# Altium schematic symbol library Simpton_Schlib.SchLib: 7 symbols
Pins are listed as number, name and electrical type; pins without a type are passive.

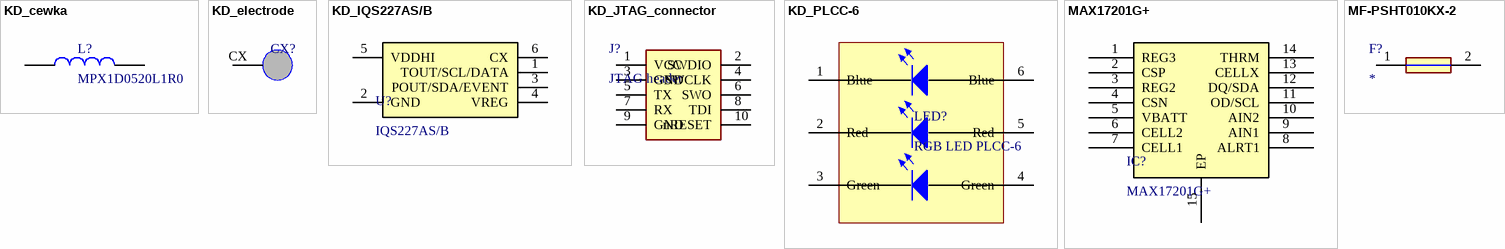
[diagram p0: symbols KD_cewka to MF-PSHT010KX-2]

## KD_cewka
designator L?, comment MPX1D0520L1R0
footprint INDPM5350X200N
pins: 25, 26

## KD_electrode
designator CX?
footprint KD_electrode
pins: CX 18

## KD_IQS227AS/B
designator U?, comment IQS227AS/B
footprint KD_TSOT23-6
pins: 1 TOUT/SCL/DATA, 2 GND, 3 POUT/SDA/EVENT, 4 VREG, 5 VDDHI, 6 CX

## KD_JTAG_connector
designator J?, comment JTAG header
Connector
footprint KD_JTAG_header
pins: 1 VCC, 2 SWDIO, 3 GND, 4 SWCLK, 5 TX, 6 SWO, 7 RX, 8 TDI, 9 GND, 10 nRESET

## KD_PLCC-6
designator LED?, comment RGB LED PLCC-6
pins: 1 Blue, 2 Red, 3 Green, 4 Green, 5 Red, 6 Blue

## MAX17201G+
designator IC?
footprint KW_TDFN14
pins: 1 REG3, 2 CSP, 3 REG2, 4 CSN, 5 VBATT, 6 CELL2, 7 CELL1, 8 ALRT1, 9 AIN1, 10 AIN2, 11 OD/SCL, 12 DQ/SDA, 13 CELLX, 14 THRM, 15 EP

## MF-PSHT010KX-2
designator F?
Fuse; Manufacturer_Name: Bourns; Manufacturer_Part_Number: MF-PSHT050KX-2; Datasheet Link: https://www.bourns.com/docs/product-datasheets/mfpsht.pdf; Height: 1.2mm; Mouser Part Number: 652-MF-PSHT050KX-2; Mouser Price/Stock: https://www.mouser.co.uk/ProductDetail/Bourns/MF-PSHT050KX-2?qs=XeJtXLiO41SgKAEP4Z5Pjw%3D%3D; Arrow Part Number: MF-PSHT050KX-2; Arrow Price/Stock: https://www.arrow.com/en/products/mf-psht050kx-2/bourns?region=nac
footprint FUSC2214X120N
pins: 1, 2